# EAGLE library part AUDIOFX-NOSPKRS (library jos-ph)
Adafruit Audio SFX 2x2 without Speaker pins
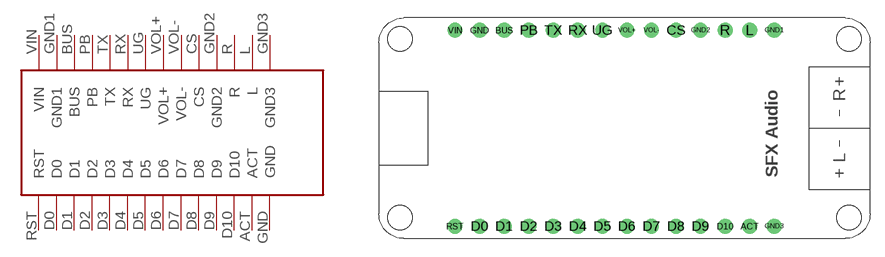
[diagram p6: symbol with the pads of AUDIOFX-NOSPKRS; footprint AUDIOFX-NOSPKRS]

Designator prefix -

## AUDIOFX-NOSPKRS  [AUDIOFX-NOSPKRS]
ACT  ACT
BUS  BUS
CS  CS
D0  D0
D1  D1
D2  D2
D3  D3
D4  D4
D5  D5
D6  D6
D7  D7
D8  D8
D9  D9
D10  D10
GND  GND
GND1  GND1
GND2  GND2
GND3  GND3
L  L
PB  PB
R  R
RST  RST
RX  RX
TX  TX
UG  UG
VIN  VIN
VOL+  VOL+
VOL-  VOL-

## Footprint AUDIOFX-NOSPKRS (pad centres in mm)
Adafruit Audio SFX Sound Board + 2x2W Amplifier --- https://www.adafruit.com/products/2210
drill 1.016: ACT 14.605,-9.779; BUS -10.795,10.541; CS 6.985,10.541; D0 -13.335,-9.779; D1 -10.795,-9.779; D2 -8.255,-9.779; D3 -5.715,-9.779; D4 -3.175,-9.779; D5 -0.635,-9.779; D6 1.905,-9.779; D7 4.445,-9.779; D8 6.985,-9.779; D9 9.525,-9.779; D10 12.065,-9.779; GND -13.335,10.541; GND1 17.145,10.541; GND2 9.525,10.541; GND3 17.145,-9.779; L 14.605,10.541; PB -8.255,10.541; R 12.065,10.541; RST -15.875,-9.779; RX -3.175,10.541; TX -5.715,10.541; UG -0.635,10.541; VIN -15.875,10.541; VOL+ 1.905,10.541; VOL- 4.445,10.541
hole 2.54 at -21.59,9.652
hole 2.54 at 24.892,9.652
hole 2.54 at -21.59,-8.89
hole 2.54 at 24.892,-8.89